# Altium schematic symbol library MLX91205-SO8.SchLib: 1 symbol
Pins are listed as number, name and electrical type; pins without a type are passive.

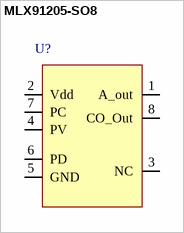
[diagram p0: symbol MLX91205-SO8]

## MLX91205-SO8
designator U?  (value not drawn)
pins: 1 A_out, 2 Vdd, 3 NC, 4 PV, 5 GND, 6 PD, 7 PC, 8 CO_Out